# EAGLE library part 5050_RGB (library Opto-electronics > LED Emitters)
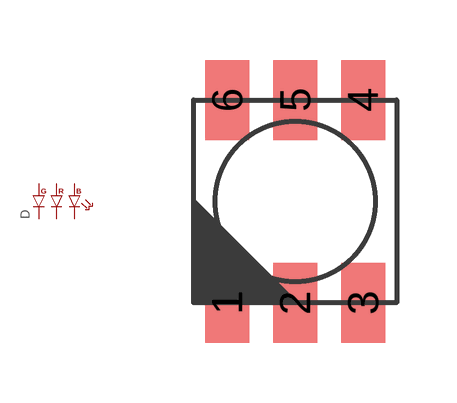
[diagram p0: symbol with the pads of 5050; footprint 5050]

Designator prefix D

## 5050_RGB  [5050]
1  GAN
2  RAN
3  BAN
4  BCAT
5  RCAT
6  GCAT

## Footprint 5050 (pad centres in mm)
smd 1.1 x 2: 1 -1.7,-2.54; 2 0,-2.54; 3 1.7,-2.54; 4 1.7,2.54; 5 0,2.54; 6 -1.7,2.54